# Altium schematic symbol library UOMP optoislators.SchLib: 3 symbols
Pins are listed as number, name and electrical type; pins without a type are passive.

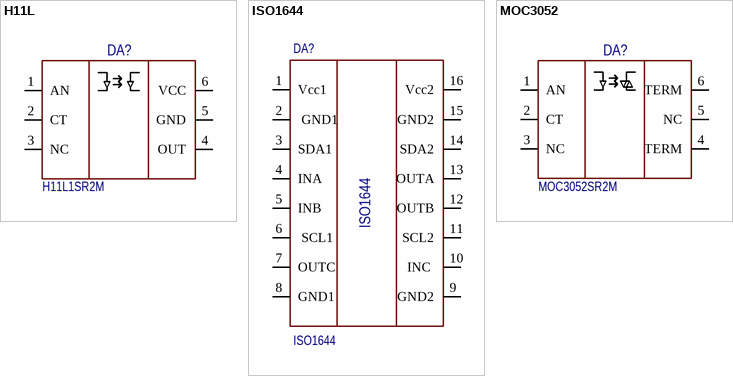
[diagram p0: symbols H11L to MOC3052]

## H11L
designator DA?, comment H11L1SR2M
Code: 6340004971; Name: Оптопара H11L1SR2M
footprint OPTOISOL: DIP 6 SMD
pins: 1 AN, 2 CT, 3 NC, 4 OUT, 5 GND, 6 VCC

## ISO1644
designator DA?
Code: 6339120361; Name: Микросхема ISO1644DWR, TI
footprint IC: SOIC 16 WIDE
pins: 1 Vсс1, 2  GND1, 3 SDA1, 4 INA, 5 INB, 6  SCL1, 7 OUTC, 8 GND1, 9 GND2, 10  INC , 11  SCL2, 12 OUTB, 13 OUTA, 14 SDA2, 15 GND2, 16 Vсс2

## MOC3052
designator DA?, comment MOC3052SR2M
Name: Микросхема MOC3052SR2VM, ONS; Code: 6339115601
footprint OPTOISOL: DIP 6 SMD
pins: 1 AN, 2 CT, 3 NC, 4 TERM, 5 NC, 6 TERM